# Altium footprint library VESC_6.4.1.PcbLib: 21 footprints (part 2 of 2)
Each footprint in its own frame and in the unit in brackets; x right, y up, seen from the top. Pads: shape width x height; smd on the part's side, far side on the other; paste and mask are expansions set on the pad; w line width, h text height; cw(c..) or ccw(c..) is an arc to the next point about the centre after c.
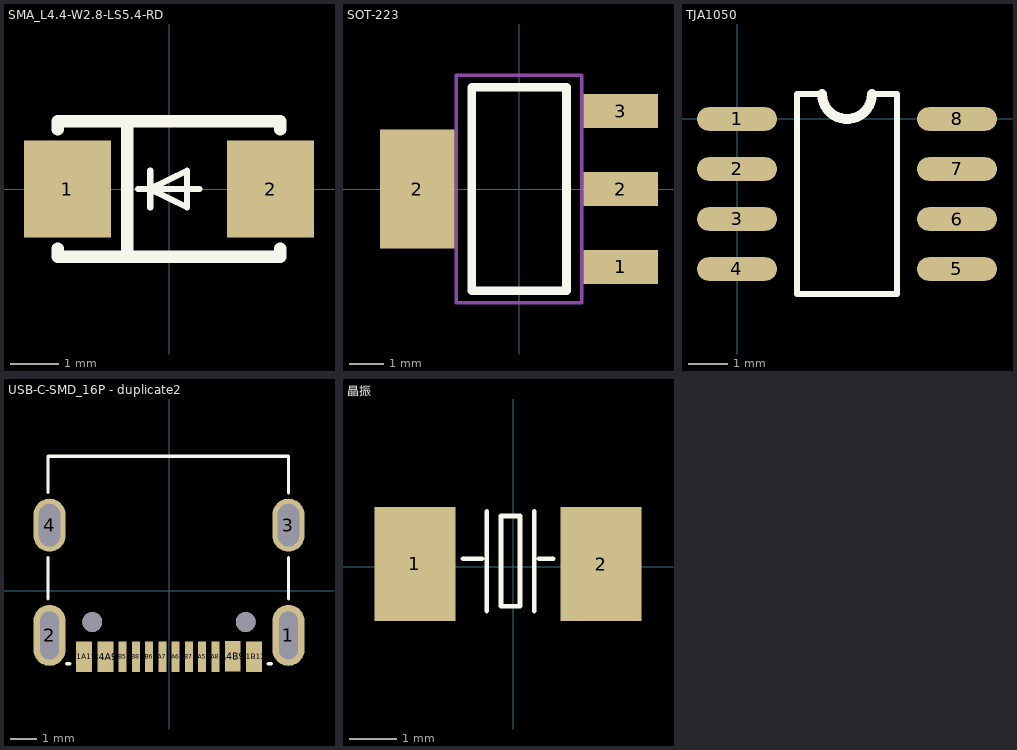
[diagram p1: the footprints below, top view; thin cyan lines are the x and y axes]

## SMA_L4.4-W2.8-LS5.4-RD [mm]
pads (2):
  rect 1.8x2 smd: 1(-2.1,0) 2(2.1,0)
Top Overlay:
  lines w0.127: -0.643,0 0.627,0 ; -0.389,-0.381 -0.389,0 ; -0.389,0.381 -0.389,0 ; -0.389,0 0.373,0.381 0.373,0 0.373,-0.381 -0.389,0
  lines w0.254: -2.3,-1.231 -2.3,-1.4 2.3,-1.4 2.3,-1.231 ; -2.3,1.231 -2.3,1.4 2.3,1.4 2.3,1.231 ; -0.864,-1.4 -0.864,1.4
3D body "User Library-DO-214AC SMA.STEP": height 2.4, standoff 0, extent -2.608,-1.3 2.592,1.3

## SOT-223 [mm]
pads (4):
  rect 2.2x1 smd: 1(3,-2.3) 2(3,0) 3(3,2.3)
  rect 2.2x3.5 smd: 2(-3,0)
Top Overlay:
  lines w0.254: -1.4,-3 -1.4,3 1.4,3 1.4,-3 -1.4,-3
Mechanical 13:
  lines w0.1: -1.85,-3.35 1.85,-3.35 1.85,3.35 -1.85,3.35 -1.85,-3.35
3D body "TO-223.STEP": height 1.64, standoff -0.04, extent -3.49,-3.242 3.49,3.243

## TJA1050 [mil]
height 137.8
pads (8):
  oval 80x23.62 smd: 1(0,0) 2(0,-50) 3(0,-100) 4(0,-150) 5(220,-150) 6(220,-100) 7(220,-50) 8(220,0)
Top Overlay:
  lines w6: 85,25 60,25 60,-175 160,-175 160,25 135,25
  lines w10: 85,25 ccw(c110,25) 135,25
3D body "SO8.STEP": height 57, standoff 0, extent -2.75,-172.01 224.74,20.99

## USB-C-SMD_16P - duplicate2 [mm]
pads (18):
  oval 1.2x2.3 hole 0.7 slot 1.8 at 90 deg: 1(4.5,-1.675) 2(-4.5,-1.675)
  oval 1.2x2 hole 0.8 slot 1.6 at 90 deg: 3(4.5,2.475) 4(-4.5,2.475)
  rect 0.6x1.15 smd: A1B12(3.2,-2.473) A4B9(2.4,-2.471) B1A12(-3.2,-2.475) B4A9(-2.4,-2.475)
  rect 0.3x1.15 smd: A5(1.25,-2.475) A6(0.25,-2.475) A7(-0.25,-2.473) B5(-1.75,-2.475) B6(-0.75,-2.475) B7(0.75,-2.473)
  rect 0.3x1.148 smd: A8(1.75,-2.475) B8(-1.25,-2.475)
  round 0.75 hole 0.75 unplated: ""(-2.89,-1.175) ""(2.89,-1.175)
Top Overlay:
  lines w0.127: -4.557,-0.296 -4.557,1.246 ; -4.557,3.704 -4.557,5.075 4.5,5.075 4.5,3.698 ; -3.856,-2.75 -3.819,-2.75 -3.731,-2.75 ; 3.731,-2.75 3.856,-2.75 ; 4.5,-0.302 4.5,1.252
3D body "3D Model.STEP": height 3.25, standoff -0.85, extent -4.445,-2.875 4.495,5.025

## 晶振 [mm] "XTAL_SMD5032"
height 2
pads (2):
  rect 1.7x2.4 smd: 1(-2.071,0.058) 2(1.85,0.057)
Top Overlay:
  lines w0.1: -1.057,0.167 -0.657,0.167 ; -0.557,-0.933 -0.557,1.167 ; 0.443,-0.933 0.443,1.167 ; 0.543,0.167 0.843,0.167 ; -0.257,-0.833 -0.257,1.067 0.143,1.067 0.143,-0.833 -0.257,-0.833
3D body "SMD5032-2P.STEP": height 1.41, standoff -0.01, extent -2.569,-1.451 2.431,1.749